# EAGLE library part DF3-13 (library con-hirose)
Single row connector 2mm 13 way
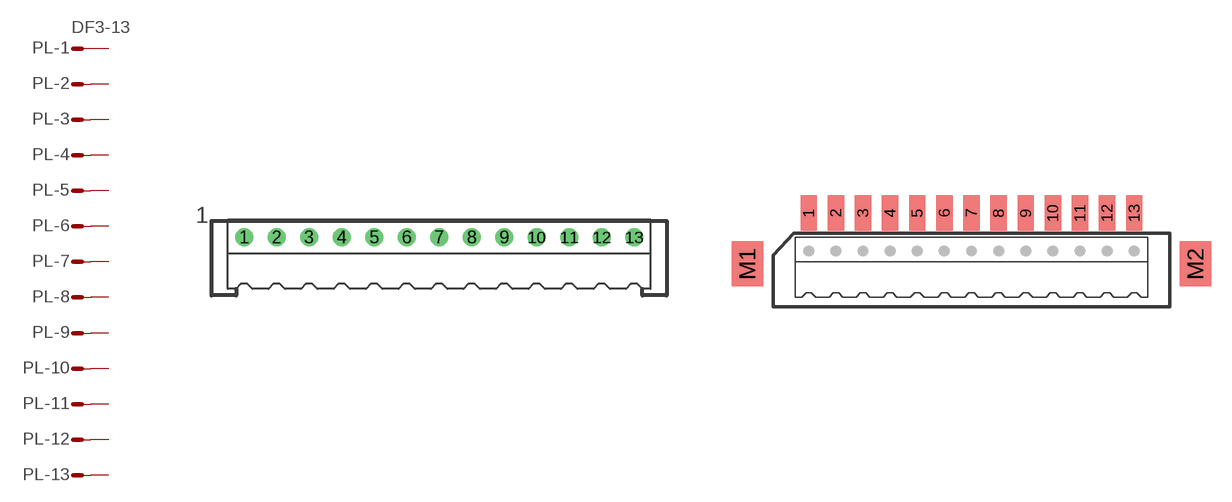
[diagram p15: symbol with the pads of DF3P-13; footprints DF3P-13, DF3DZ-13]

Designator prefix PL; gates -1=MV -2=M -3=M -4=M -5=M -6=M -7=M -8=M -9=M -10=M -11=M -12=M -13=M

## DF3-13P  [DF3P-13]
1  -1:S  pas
2  -2:S  pas
3  -3:S  pas
4  -4:S  pas
5  -5:S  pas
6  -6:S  pas
7  -7:S  pas
8  -8:S  pas
9  -9:S  pas
10  -10:S  pas
11  -11:S  pas
12  -12:S  pas
13  -13:S  pas

## DF3-13DZ  [DF3DZ-13]
Pads as for DF3P-13

## DF3-13R  [DF3R-13]
Pads as for DF3P-13

## Footprint DF3P-13 (pad centres in mm)
Single row connector 2mm 13 way
drill 0.6 round: 1 -12,1; 2 -10,1; 3 -8,1; 4 -6,1; 5 -4,1; 6 -2,1; 7 0,1; 8 2,1; 9 4,1; 10 6,1; 11 8,1; 12 10,1; 13 12,1

## Footprint DF3DZ-13 (pad centres in mm)
Single row SMT connector 2mm 13 way
smd 1.2 x 2.6: 1 -12,4.1; 2 -10,4.1; 3 -8,4.1; 4 -6,4.1; 5 -4,4.1; 6 -2,4.1; 7 0,4.1; 8 2,4.1; 9 4,4.1; 10 6,4.1; 11 8,4.1; 12 10,4.1; 13 12,4.1
smd 2.3 x 3.3: M1 -16.52,0.35; M2 16.52,0.35

## Footprint DF3R-13 (pad centres in mm)
Single row connector 2mm 13 way
drill 0.6 round: 1 -12,1.8; 2 -10,1.8; 3 -8,1.8; 4 -6,1.8; 5 -4,1.8; 6 -2,1.8; 7 0,1.8; 8 2,1.8; 9 4,1.8; 10 6,1.8; 11 8,1.8; 12 10,1.8; 13 12,1.8